# Altium footprint library SODFL3517X110N.PcbLib: 1 footprints
Each footprint in its own frame and in the unit in brackets; x right, y up, seen from the top. Pads: shape width x height; smd on the part's side, far side on the other; paste and mask are expansions set on the pad; w line width, h text height; cw(c..) or ccw(c..) is an arc to the next point about the centre after c.
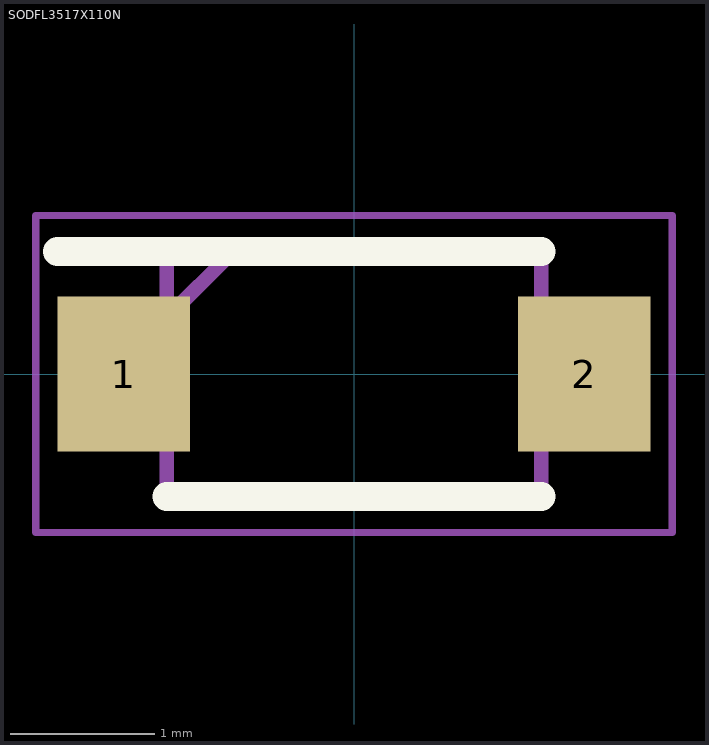
[diagram p0: the footprint, top view; thin cyan lines are the x and y axes]

## SODFL3517X110N [mm]
pads (2):
  rect 0.92x1.08 smd: 1(-1.6,0) 2(1.6,0)
Top Overlay:
  lines w0.2: -2.06,0.85 1.3,0.85 ; -1.3,-0.85 1.3,-0.85
Mechanical 15:
  lines w0.1: -1.3,0.39 -0.84,0.85 ; -1.3,-0.85 1.3,-0.85 1.3,0.85 -1.3,0.85 -1.3,-0.85
Mechanical 20:
  lines w0.05: -2.21,-1.1 2.21,-1.1 2.21,1.1 -2.21,1.1 -2.21,-1.1